# Altium schematic symbol library axsem_other_modules_v1-0.SCHLIB: 1 symbol
Pins are listed as number, name and electrical type; pins without a type are passive.

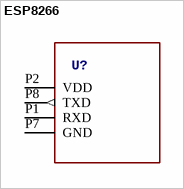
[diagram p0: symbol ESP8266]

## ESP8266
designator U?
footprint ESP8266
pins: P1 RXD, P2 VDD (power), P7 GND, P8 TXD (out)